# Altium integrated library TI Power Management Step-Up Regulator.IntLib: 226 symbols (part 9 of 11)
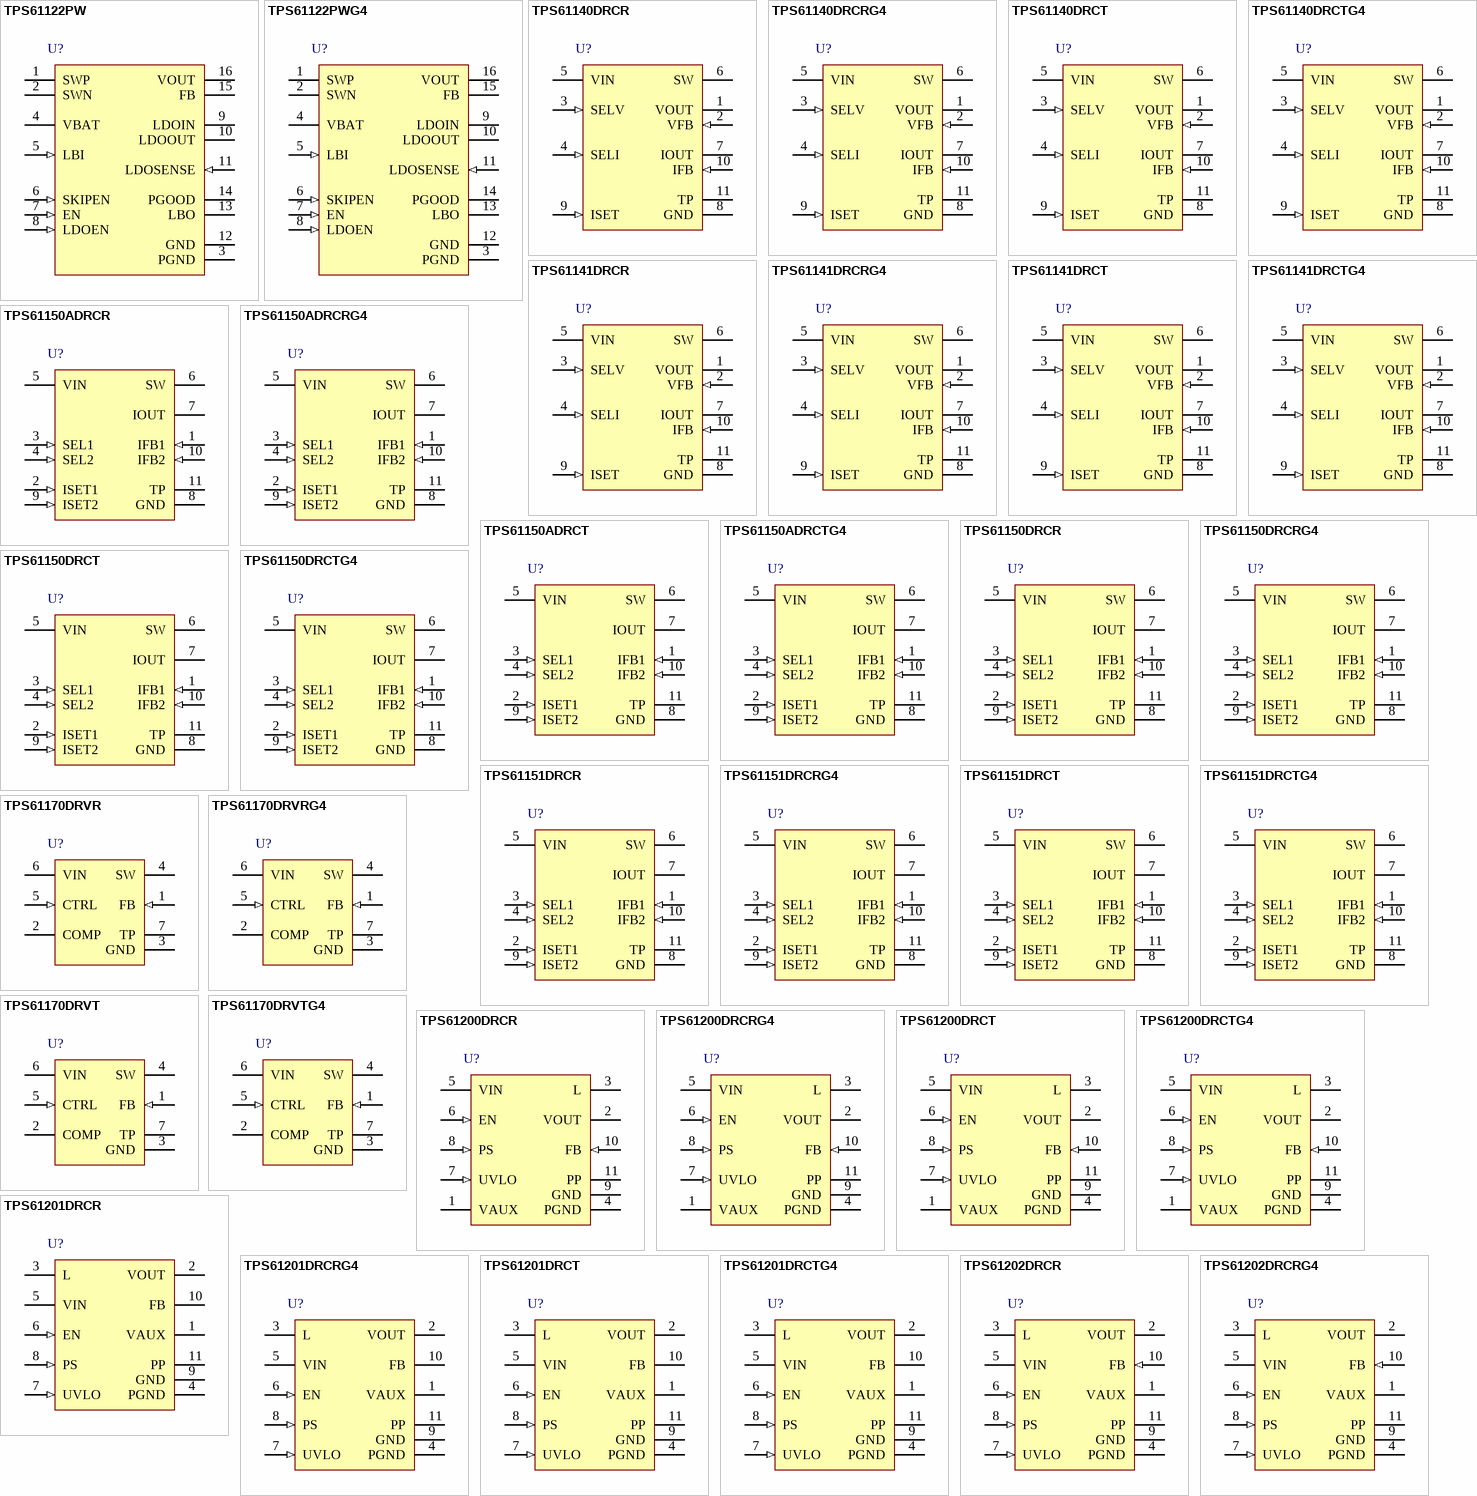
[diagram p14: symbols TPS61122PW to TPS61202DRCRG4]

## TPS61200DRCR
designator U?
Boost Voltage Converter with 0.3 to 5.5 V Input and 1.8 to 5.5 V Output, -40 to 85 degC, 10-Pin SON (DRC), Green (RoHS & no Sb/Br); Manufacturer: Texas Instruments; PartNumber: TPS61200DRCR; Regulated Outputs(#): 1; SubFamily: Step-Up Regulator; Switching Frequency(Max)(kHz): 1250; Synchronous Rectification: TRUE; Vin(Max)(V): 5.5; Vin(Min)(V): 0.3; Vout(Min)(V): 1.8; DatasheetVersion: SLVS577B; PackageVersion: revL, Sep-2011; PackageReference: DRC10-2400X1650TP; PackageDescription: 10-Pin Plastic Small Outline No-Lead, 3 x 3 x 1 mm Body, 0.5 mm Pitch, Exposed Pad; Supplier 1: Digi-Key; Supplier Part Number 1: 296-27017-2-ND; Supplier 2: Digi-Key; Supplier Part Number 2: 296-27017-1-ND; Supplier 3: Digi-Key; Supplier Part Number 3: 296-27017-6-ND; Supplier 4: Newark; Supplier Part Number 4: 37M0065; Supplier 5: Mouser; Supplier Part Number 5: 595-TPS61200DRCR; Eco-Plan: Green (RoHS & no Sb/Br); Topology: Boost; Vout(Max)(V): 5.5; Mounting Technology: Surface Mount; ComponentLink1Description: Datasheet; ComponentLink1URL: http://www.ti.com/general/docs/lit/getliterature.tsp?genericPartNumber=TPS61200&fileType=pdf; ComponentLink2Description: Package Specification; ComponentLink2URL: http://www.ti.com/litv/pdf/mpds117k
footprint DRC10-2400X1650TP (SON, 10-Leads, Body 3x3mm, Pitch 0.5mm, Thermal Pad 2.4x1.65mm, TI Recommended)
pins: 1 VAUX (power) "Supply voltage for control stage", 2 VOUT (power) "Boost converter output", 3 L (power) "Connection for Inductor", 4 PGND (power) "Power ground", 5 VIN (power) "Boost converter input voltage", 6 EN (in) "Enable input (1: enabled, 0: disabled).", 7 UVLO (in) "Undervoltage lockout comparator input, must be connected to VAUX if not used", 8 PS (in) "Enable/disable Power Save mode (1 : disabled, 0: enabled)", 9 GND (power) "Control / logic ground", 10 FB (in) "Voltage feedback of adjustable versions, must be connected to VOUT at fixed output voltage versions", 11 PP (power) "Must be soldered to achieve appropriate power dissipation. Should be connected to PGND."

## TPS61200DRCRG4
designator U?
Boost Voltage Converter with 0.3 to 5.5 V Input and 1.8 to 5.5 V Output, -40 to 85 degC, 10-Pin SON (DRC), Green (RoHS & no Sb/Br); Manufacturer: Texas Instruments; PartNumber: TPS61200DRCRG4; Regulated Outputs(#): 1; SubFamily: Step-Up Regulator; Switching Frequency(Max)(kHz): 1250; Synchronous Rectification: TRUE; Vin(Max)(V): 5.5; Vin(Min)(V): 0.3; Vout(Min)(V): 1.8; DatasheetVersion: SLVS577B; PackageVersion: revL, Sep-2011; PackageReference: DRC10-2400X1650TP; PackageDescription: 10-Pin Plastic Small Outline No-Lead, 3 x 3 x 1 mm Body, 0.5 mm Pitch, Exposed Pad; Supplier 1: Digi-Key; Supplier Part Number 1: TPS61200DRCRG4-ND; Supplier 2: Newark; Supplier Part Number 2: 41M5886; Supplier 3: Mouser; Supplier Part Number 3: 595-TPS61200DRCRG4; Eco-Plan: Green (RoHS & no Sb/Br); Topology: Boost; Vout(Max)(V): 5.5; Mounting Technology: Surface Mount; ComponentLink1Description: Datasheet; ComponentLink1URL: http://www.ti.com/general/docs/lit/getliterature.tsp?genericPartNumber=TPS61200&fileType=pdf; ComponentLink2Description: Package Specification; ComponentLink2URL: http://www.ti.com/litv/pdf/mpds117k
footprint DRC10-2400X1650TP (SON, 10-Leads, Body 3x3mm, Pitch 0.5mm, Thermal Pad 2.4x1.65mm, TI Recommended)
pins: 1 VAUX (power) "Supply voltage for control stage", 2 VOUT (power) "Boost converter output", 3 L (power) "Connection for Inductor", 4 PGND (power) "Power ground", 5 VIN (power) "Boost converter input voltage", 6 EN (in) "Enable input (1: enabled, 0: disabled).", 7 UVLO (in) "Undervoltage lockout comparator input, must be connected to VAUX if not used", 8 PS (in) "Enable/disable Power Save mode (1 : disabled, 0: enabled)", 9 GND (power) "Control / logic ground", 10 FB (in) "Voltage feedback of adjustable versions, must be connected to VOUT at fixed output voltage versions", 11 PP (power) "Must be soldered to achieve appropriate power dissipation. Should be connected to PGND."

## TPS61200DRCT
designator U?
Boost Voltage Converter with 0.3 to 5.5 V Input and 1.8 to 5.5 V Output, -40 to 85 degC, 10-Pin SON (DRC), Green (RoHS & no Sb/Br); Manufacturer: Texas Instruments; PartNumber: TPS61200DRCT; Regulated Outputs(#): 1; SubFamily: Step-Up Regulator; Switching Frequency(Max)(kHz): 1250; Synchronous Rectification: TRUE; Vin(Max)(V): 5.5; Vin(Min)(V): 0.3; Vout(Min)(V): 1.8; DatasheetVersion: SLVS577B; PackageVersion: revL, Sep-2011; PackageReference: DRC10-2400X1650TP; PackageDescription: 10-Pin Plastic Small Outline No-Lead, 3 x 3 x 1 mm Body, 0.5 mm Pitch, Exposed Pad; Supplier 1: Digi-Key; Supplier Part Number 1: 296-21663-2-ND; Supplier 2: Digi-Key; Supplier Part Number 2: 296-21663-1-ND; Supplier 3: Digi-Key; Supplier Part Number 3: 296-21663-6-ND; Supplier 4: Farnell; Supplier Part Number 4: 1471238; Supplier 5: Newark; Supplier Part Number 5: 37M0066; Supplier 6: Mouser; Supplier Part Number 6: 595-TPS61200DRCT; Eco-Plan: Green (RoHS & no Sb/Br); Topology: Boost; Vout(Max)(V): 5.5; Mounting Technology: Surface Mount; ComponentLink1Description: Datasheet; ComponentLink1URL: http://www.ti.com/general/docs/lit/getliterature.tsp?genericPartNumber=TPS61200&fileType=pdf; ComponentLink2Description: Package Specification; ComponentLink2URL: http://www.ti.com/litv/pdf/mpds117k
footprint DRC10-2400X1650TP (SON, 10-Leads, Body 3x3mm, Pitch 0.5mm, Thermal Pad 2.4x1.65mm, TI Recommended)
pins: 1 VAUX (power) "Supply voltage for control stage", 2 VOUT (power) "Boost converter output", 3 L (power) "Connection for Inductor", 4 PGND (power) "Power ground", 5 VIN (power) "Boost converter input voltage", 6 EN (in) "Enable input (1: enabled, 0: disabled).", 7 UVLO (in) "Undervoltage lockout comparator input, must be connected to VAUX if not used", 8 PS (in) "Enable/disable Power Save mode (1 : disabled, 0: enabled)", 9 GND (power) "Control / logic ground", 10 FB (in) "Voltage feedback of adjustable versions, must be connected to VOUT at fixed output voltage versions", 11 PP (power) "Must be soldered to achieve appropriate power dissipation. Should be connected to PGND."

## TPS61200DRCTG4
designator U?
Boost Voltage Converter with 0.3 to 5.5 V Input and 1.8 to 5.5 V Output, -40 to 85 degC, 10-Pin SON (DRC), Green (RoHS & no Sb/Br); Manufacturer: Texas Instruments; PartNumber: TPS61200DRCTG4; Regulated Outputs(#): 1; SubFamily: Step-Up Regulator; Switching Frequency(Max)(kHz): 1250; Synchronous Rectification: TRUE; Vin(Max)(V): 5.5; Vin(Min)(V): 0.3; Vout(Min)(V): 1.8; DatasheetVersion: SLVS577B; PackageVersion: revL, Sep-2011; PackageReference: DRC10-2400X1650TP; PackageDescription: 10-Pin Plastic Small Outline No-Lead, 3 x 3 x 1 mm Body, 0.5 mm Pitch, Exposed Pad; Supplier 1: Digi-Key; Supplier Part Number 1: TPS61200DRCTG4-ND; Supplier 2: Farnell; Supplier Part Number 2: 1366268; Supplier 3: Newark; Supplier Part Number 3: 62M0742; Supplier 4: Newark; Supplier Part Number 4: 41M5887; Supplier 5: Mouser; Supplier Part Number 5: 595-TPS61200DRCTG4; Eco-Plan: Green (RoHS & no Sb/Br); Topology: Boost; Vout(Max)(V): 5.5; Mounting Technology: Surface Mount; ComponentLink1Description: Datasheet; ComponentLink1URL: http://www.ti.com/general/docs/lit/getliterature.tsp?genericPartNumber=TPS61200&fileType=pdf; ComponentLink2Description: Package Specification; ComponentLink2URL: http://www.ti.com/litv/pdf/mpds117k
footprint DRC10-2400X1650TP (SON, 10-Leads, Body 3x3mm, Pitch 0.5mm, Thermal Pad 2.4x1.65mm, TI Recommended)
pins: 1 VAUX (power) "Supply voltage for control stage", 2 VOUT (power) "Boost converter output", 3 L (power) "Connection for Inductor", 4 PGND (power) "Power ground", 5 VIN (power) "Boost converter input voltage", 6 EN (in) "Enable input (1: enabled, 0: disabled).", 7 UVLO (in) "Undervoltage lockout comparator input, must be connected to VAUX if not used", 8 PS (in) "Enable/disable Power Save mode (1 : disabled, 0: enabled)", 9 GND (power) "Control / logic ground", 10 FB (in) "Voltage feedback of adjustable versions, must be connected to VOUT at fixed output voltage versions", 11 PP (power) "Must be soldered to achieve appropriate power dissipation. Should be connected to PGND."

## TPS61201DRCR
designator U?
Boost Voltage Converter with 0.3 to 5.5 V Input and 3.3 V Output, -40 to 85 degC, 10-Pin SON (DRC), Green (RoHS & no Sb/Br); Manufacturer: Texas Instruments; PartNumber: TPS61201DRCR; Preset Vout(V): 3.3; Regulated Outputs(#): 1; SubFamily: Step-Up Regulator; Switching Frequency(Max)(kHz): 1250; Synchronous Rectification: TRUE; Vin(Max)(V): 5.5; Vin(Min)(V): 0.3; DatasheetVersion: SLVS577B; PackageVersion: revL, Sep-2011; PackageReference: DRC10-2400X1650TP; PackageDescription: 10-Pin Plastic Small Outline No-Lead, 3 x 3 x 1 mm Body, 0.5 mm Pitch, Exposed Pad; Supplier 1: Digi-Key; Supplier Part Number 1: TPS61201DRCR-ND; Supplier 2: Newark; Supplier Part Number 2: 37M0067; Supplier 3: Mouser; Supplier Part Number 3: 595-TPS61201DRCR; Eco-Plan: Green (RoHS & no Sb/Br); Topology: Boost; Vout(Max)(V): 3.3; Vout(Min)(V): 3.3; Mounting Technology: Surface Mount; ComponentLink1Description: Datasheet; ComponentLink1URL: http://www.ti.com/general/docs/lit/getliterature.tsp?genericPartNumber=TPS61201&fileType=pdf; ComponentLink2Description: Package Specification; ComponentLink2URL: http://www.ti.com/litv/pdf/mpds117k
footprint DRC10-2400X1650TP (SON, 10-Leads, Body 3x3mm, Pitch 0.5mm, Thermal Pad 2.4x1.65mm, TI Recommended)
pins: 1 VAUX (power) "Supply voltage for control stage", 2 VOUT (power) "Boost converter output", 3 L (power) "Connection for Inductor", 4 PGND (power) "Power ground", 5 VIN (power) "Boost converter input voltage", 6 EN (in) "Enable input (1: enabled, 0: disabled).", 7 UVLO (in) "Undervoltage lockout comparator input, must be connected to VAUX if not used", 8 PS (in) "Enable/disable Power Save mode (1 : disabled, 0: enabled)", 9 GND (power) "Control / logic ground", 10 FB "Voltage feedback of adjustable versions, must be connected to VOUT at fixed output voltage versions", 11 PP (power) "Must be soldered to achieve appropriate power dissipation. Should be connected to PGND."

## TPS61201DRCRG4
designator U?
Boost Voltage Converter with 0.3 to 5.5 V Input and 3.3 V Output, -40 to 85 degC, 10-Pin SON (DRC), Green (RoHS & no Sb/Br); Manufacturer: Texas Instruments; PartNumber: TPS61201DRCRG4; Preset Vout(V): 3.3; Regulated Outputs(#): 1; SubFamily: Step-Up Regulator; Switching Frequency(Max)(kHz): 1250; Synchronous Rectification: TRUE; Vin(Max)(V): 5.5; Vin(Min)(V): 0.3; DatasheetVersion: SLVS577B; PackageVersion: revL, Sep-2011; PackageReference: DRC10-2400X1650TP; PackageDescription: 10-Pin Plastic Small Outline No-Lead, 3 x 3 x 1 mm Body, 0.5 mm Pitch, Exposed Pad; Supplier 1: Digi-Key; Supplier Part Number 1: TPS61201DRCRG4-ND; Supplier 2: Newark; Supplier Part Number 2: 41M5889; Supplier 3: Mouser; Supplier Part Number 3: 595-TPS61201DRCRG4; Eco-Plan: Green (RoHS & no Sb/Br); Topology: Boost; Vout(Max)(V): 3.3; Vout(Min)(V): 3.3; Mounting Technology: Surface Mount; ComponentLink1Description: Datasheet; ComponentLink1URL: http://www.ti.com/general/docs/lit/getliterature.tsp?genericPartNumber=TPS61201&fileType=pdf; ComponentLink2Description: Package Specification; ComponentLink2URL: http://www.ti.com/litv/pdf/mpds117k
footprint DRC10-2400X1650TP (SON, 10-Leads, Body 3x3mm, Pitch 0.5mm, Thermal Pad 2.4x1.65mm, TI Recommended)
pins: 1 VAUX (power) "Supply voltage for control stage", 2 VOUT (power) "Boost converter output", 3 L (power) "Connection for Inductor", 4 PGND (power) "Power ground", 5 VIN (power) "Boost converter input voltage", 6 EN (in) "Enable input (1: enabled, 0: disabled).", 7 UVLO (in) "Undervoltage lockout comparator input, must be connected to VAUX if not used", 8 PS (in) "Enable/disable Power Save mode (1 : disabled, 0: enabled)", 9 GND (power) "Control / logic ground", 10 FB "Voltage feedback of adjustable versions, must be connected to VOUT at fixed output voltage versions", 11 PP (power) "Must be soldered to achieve appropriate power dissipation. Should be connected to PGND."

## TPS61201DRCT
designator U?
Boost Voltage Converter with 0.3 to 5.5 V Input and 3.3 V Output, -40 to 85 degC, 10-Pin SON (DRC), Green (RoHS & no Sb/Br); Manufacturer: Texas Instruments; PartNumber: TPS61201DRCT; Preset Vout(V): 3.3; Regulated Outputs(#): 1; SubFamily: Step-Up Regulator; Switching Frequency(Max)(kHz): 1250; Synchronous Rectification: TRUE; Vin(Max)(V): 5.5; Vin(Min)(V): 0.3; DatasheetVersion: SLVS577B; PackageVersion: revL, Sep-2011; PackageReference: DRC10-2400X1650TP; PackageDescription: 10-Pin Plastic Small Outline No-Lead, 3 x 3 x 1 mm Body, 0.5 mm Pitch, Exposed Pad; Supplier 1: Digi-Key; Supplier Part Number 1: 296-21684-2-ND; Supplier 2: Digi-Key; Supplier Part Number 2: 296-21684-1-ND; Supplier 3: Digi-Key; Supplier Part Number 3: 296-21684-6-ND; Supplier 4: Farnell; Supplier Part Number 4: 1564952; Supplier 5: Newark; Supplier Part Number 5: 37M0068; Supplier 6: Mouser; Supplier Part Number 6: 595-TPS61201DRCT; Eco-Plan: Green (RoHS & no Sb/Br); Topology: Boost; Vout(Max)(V): 3.3; Vout(Min)(V): 3.3; Mounting Technology: Surface Mount; ComponentLink1Description: Datasheet; ComponentLink1URL: http://www.ti.com/general/docs/lit/getliterature.tsp?genericPartNumber=TPS61201&fileType=pdf; ComponentLink2Description: Package Specification; ComponentLink2URL: http://www.ti.com/litv/pdf/mpds117k
footprint DRC10-2400X1650TP (SON, 10-Leads, Body 3x3mm, Pitch 0.5mm, Thermal Pad 2.4x1.65mm, TI Recommended)
pins: 1 VAUX (power) "Supply voltage for control stage", 2 VOUT (power) "Boost converter output", 3 L (power) "Connection for Inductor", 4 PGND (power) "Power ground", 5 VIN (power) "Boost converter input voltage", 6 EN (in) "Enable input (1: enabled, 0: disabled).", 7 UVLO (in) "Undervoltage lockout comparator input, must be connected to VAUX if not used", 8 PS (in) "Enable/disable Power Save mode (1 : disabled, 0: enabled)", 9 GND (power) "Control / logic ground", 10 FB "Voltage feedback of adjustable versions, must be connected to VOUT at fixed output voltage versions", 11 PP (power) "Must be soldered to achieve appropriate power dissipation. Should be connected to PGND."

## TPS61201DRCTG4
designator U?
Boost Voltage Converter with 0.3 to 5.5 V Input and 3.3 V Output, -40 to 85 degC, 10-Pin SON (DRC), Green (RoHS & no Sb/Br); Manufacturer: Texas Instruments; PartNumber: TPS61201DRCTG4; Preset Vout(V): 3.3; Regulated Outputs(#): 1; SubFamily: Step-Up Regulator; Switching Frequency(Max)(kHz): 1250; Synchronous Rectification: TRUE; Vin(Max)(V): 5.5; Vin(Min)(V): 0.3; DatasheetVersion: SLVS577B; PackageVersion: revL, Sep-2011; PackageReference: DRC10-2400X1650TP; PackageDescription: 10-Pin Plastic Small Outline No-Lead, 3 x 3 x 1 mm Body, 0.5 mm Pitch, Exposed Pad; Supplier 1: Digi-Key; Supplier Part Number 1: TPS61201DRCTG4-ND; Supplier 2: Newark; Supplier Part Number 2: 41M5890; Supplier 3: Mouser; Supplier Part Number 3: 595-TPS61201DRCTG4; Eco-Plan: Green (RoHS & no Sb/Br); Topology: Boost; Vout(Max)(V): 3.3; Vout(Min)(V): 3.3; Mounting Technology: Surface Mount; ComponentLink1Description: Datasheet; ComponentLink1URL: http://www.ti.com/general/docs/lit/getliterature.tsp?genericPartNumber=TPS61201&fileType=pdf; ComponentLink2Description: Package Specification; ComponentLink2URL: http://www.ti.com/litv/pdf/mpds117k
footprint DRC10-2400X1650TP (SON, 10-Leads, Body 3x3mm, Pitch 0.5mm, Thermal Pad 2.4x1.65mm, TI Recommended)
pins: 1 VAUX (power) "Supply voltage for control stage", 2 VOUT (power) "Boost converter output", 3 L (power) "Connection for Inductor", 4 PGND (power) "Power ground", 5 VIN (power) "Boost converter input voltage", 6 EN (in) "Enable input (1: enabled, 0: disabled).", 7 UVLO (in) "Undervoltage lockout comparator input, must be connected to VAUX if not used", 8 PS (in) "Enable/disable Power Save mode (1 : disabled, 0: enabled)", 9 GND (power) "Control / logic ground", 10 FB "Voltage feedback of adjustable versions, must be connected to VOUT at fixed output voltage versions", 11 PP (power) "Must be soldered to achieve appropriate power dissipation. Should be connected to PGND."

## TPS61202DRCR
designator U?
Boost Voltage Converter with 0.3 to 5.5 V Input and 5 V Output, -40 to 85 degC, 10-Pin SON (DRC), Green (RoHS & no Sb/Br); Manufacturer: Texas Instruments; PartNumber: TPS61202DRCR; Preset Vout(V): 5; Regulated Outputs(#): 1; SubFamily: Step-Up Regulator; Switching Frequency(Max)(kHz): 1250; Synchronous Rectification: TRUE; Vin(Max)(V): 5.5; Vin(Min)(V): 0.3; DatasheetVersion: SLVS577B; PackageVersion: revL, Sep-2011; PackageReference: DRC10-2400X1650TP; PackageDescription: 10-Pin Plastic Small Outline No-Lead, 3 x 3 x 1 mm Body, 0.5 mm Pitch, Exposed Pad; Supplier 1: Digi-Key; Supplier Part Number 1: 296-27462-2-ND; Supplier 2: Digi-Key; Supplier Part Number 2: 296-27462-1-ND; Supplier 3: Digi-Key; Supplier Part Number 3: 296-27462-6-ND; Supplier 4: Newark; Supplier Part Number 4: 37M0069; Supplier 5: Mouser; Supplier Part Number 5: 595-TPS61202DRCR; Eco-Plan: Green (RoHS & no Sb/Br); Topology: Boost; Vout(Max)(V): 5; Vout(Min)(V): 5; Mounting Technology: Surface Mount; ComponentLink1Description: Datasheet; ComponentLink1URL: http://www.ti.com/general/docs/lit/getliterature.tsp?genericPartNumber=TPS61202&fileType=pdf; ComponentLink2Description: Package Specification; ComponentLink2URL: http://www.ti.com/litv/pdf/mpds117k
footprint DRC10-2400X1650TP (SON, 10-Leads, Body 3x3mm, Pitch 0.5mm, Thermal Pad 2.4x1.65mm, TI Recommended)
pins: 1 VAUX (power) "Supply voltage for control stage", 2 VOUT (power) "Boost converter output", 3 L (power) "Connection for Inductor", 4 PGND (power) "Power ground", 5 VIN (power) "Boost converter input voltage", 6 EN (in) "Enable input (1: enabled, 0: disabled).", 7 UVLO (in) "Undervoltage lockout comparator input, must be connected to VAUX if not used", 8 PS (in) "Enable/disable Power Save mode (1 : disabled, 0: enabled)", 9 GND (power) "Control / logic ground", 10 FB (in) "Voltage feedback of adjustable versions, must be connected to VOUT at fixed output voltage versions", 11 PP (power) "Must be soldered to achieve appropriate power dissipation. Should be connected to PGND."

## TPS61202DRCRG4
designator U?
Boost Voltage Converter with 0.3 to 5.5 V Input and 5 V Output, -40 to 85 degC, 10-Pin SON (DRC), Green (RoHS & no Sb/Br); Manufacturer: Texas Instruments; PartNumber: TPS61202DRCRG4; Preset Vout(V): 5; Regulated Outputs(#): 1; SubFamily: Step-Up Regulator; Switching Frequency(Max)(kHz): 1250; Synchronous Rectification: TRUE; Vin(Max)(V): 5.5; Vin(Min)(V): 0.3; DatasheetVersion: SLVS577B; PackageVersion: revL, Sep-2011; PackageReference: DRC10-2400X1650TP; PackageDescription: 10-Pin Plastic Small Outline No-Lead, 3 x 3 x 1 mm Body, 0.5 mm Pitch, Exposed Pad; Supplier 1: Digi-Key; Supplier Part Number 1: TPS61202DRCRG4-ND; Supplier 2: Newark; Supplier Part Number 2: 41M5891; Supplier 3: Mouser; Supplier Part Number 3: 595-TPS61202DRCRG4; Eco-Plan: Green (RoHS & no Sb/Br); Topology: Boost; Vout(Max)(V): 5; Vout(Min)(V): 5; Mounting Technology: Surface Mount; ComponentLink1Description: Datasheet; ComponentLink1URL: http://www.ti.com/general/docs/lit/getliterature.tsp?genericPartNumber=TPS61202&fileType=pdf; ComponentLink2Description: Package Specification; ComponentLink2URL: http://www.ti.com/litv/pdf/mpds117k
footprint DRC10-2400X1650TP (SON, 10-Leads, Body 3x3mm, Pitch 0.5mm, Thermal Pad 2.4x1.65mm, TI Recommended)
pins: 1 VAUX (power) "Supply voltage for control stage", 2 VOUT (power) "Boost converter output", 3 L (power) "Connection for Inductor", 4 PGND (power) "Power ground", 5 VIN (power) "Boost converter input voltage", 6 EN (in) "Enable input (1: enabled, 0: disabled).", 7 UVLO (in) "Undervoltage lockout comparator input, must be connected to VAUX if not used", 8 PS (in) "Enable/disable Power Save mode (1 : disabled, 0: enabled)", 9 GND (power) "Control / logic ground", 10 FB (in) "Voltage feedback of adjustable versions, must be connected to VOUT at fixed output voltage versions", 11 PP (power) "Must be soldered to achieve appropriate power dissipation. Should be connected to PGND."

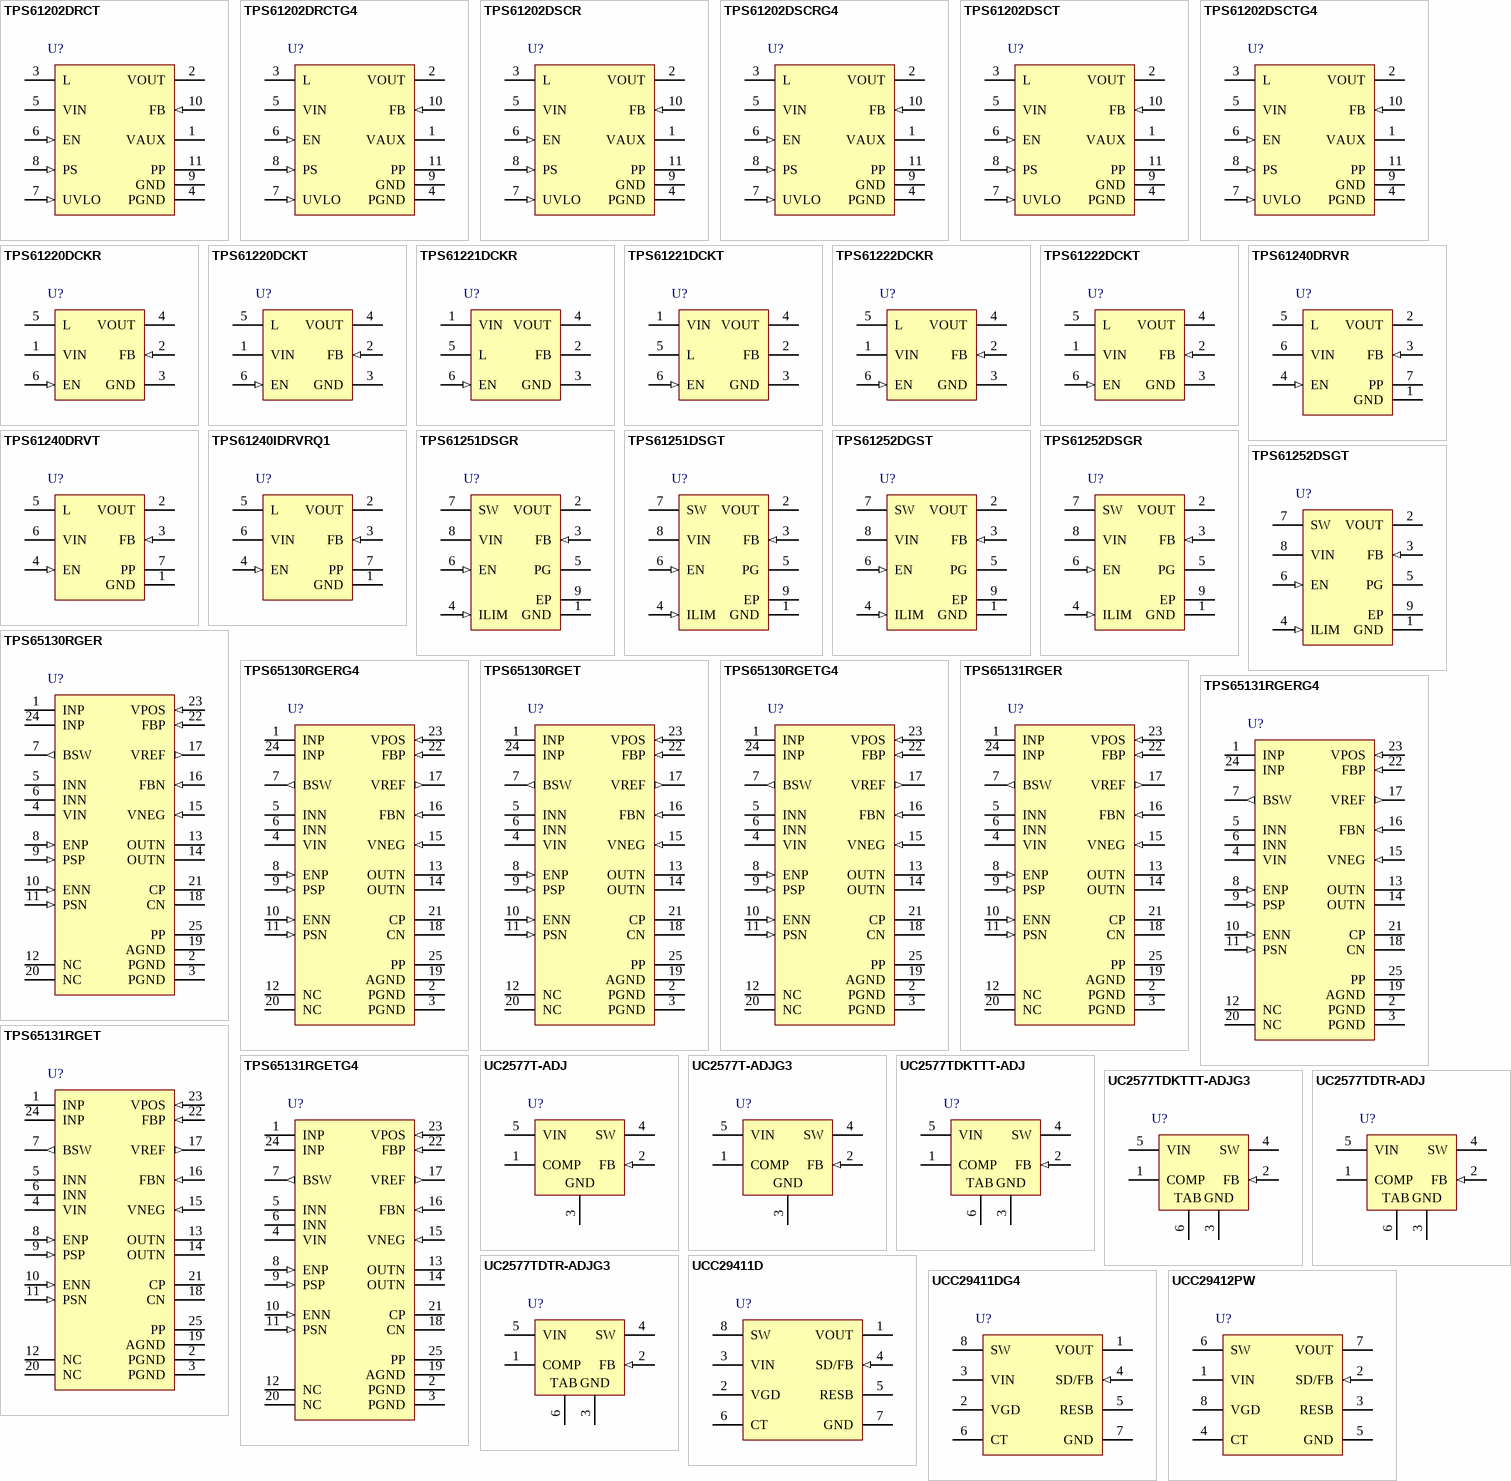
[diagram p5: symbols TPS61202DRCT to UCC29412PW]

## TPS61202DRCT
designator U?
Boost Voltage Converter with 0.3 to 5.5 V Input and 5 V Output, -40 to 85 degC, 10-Pin SON (DRC), Green (RoHS & no Sb/Br); Manufacturer: Texas Instruments; PartNumber: TPS61202DRCT; Preset Vout(V): 5; Regulated Outputs(#): 1; SubFamily: Step-Up Regulator; Switching Frequency(Max)(kHz): 1250; Synchronous Rectification: TRUE; Vin(Max)(V): 5.5; Vin(Min)(V): 0.3; DatasheetVersion: SLVS577B; PackageVersion: revL, Sep-2011; PackageReference: DRC10-2400X1650TP; PackageDescription: 10-Pin Plastic Small Outline No-Lead, 3 x 3 x 1 mm Body, 0.5 mm Pitch, Exposed Pad; Supplier 1: Digi-Key; Supplier Part Number 1: 296-21685-2-ND; Supplier 2: Digi-Key; Supplier Part Number 2: 296-21685-1-ND; Supplier 3: Digi-Key; Supplier Part Number 3: 296-21685-6-ND; Supplier 4: Farnell; Supplier Part Number 4: 1564953; Supplier 5: Newark; Supplier Part Number 5: 37M0070; Supplier 6: Mouser; Supplier Part Number 6: 595-TPS61202DRCT; Eco-Plan: Green (RoHS & no Sb/Br); Topology: Boost; Vout(Max)(V): 5; Vout(Min)(V): 5; Mounting Technology: Surface Mount; ComponentLink1Description: Datasheet; ComponentLink1URL: http://www.ti.com/general/docs/lit/getliterature.tsp?genericPartNumber=TPS61202&fileType=pdf; ComponentLink2Description: Package Specification; ComponentLink2URL: http://www.ti.com/litv/pdf/mpds117k
footprint DRC10-2400X1650TP (SON, 10-Leads, Body 3x3mm, Pitch 0.5mm, Thermal Pad 2.4x1.65mm, TI Recommended)
pins: 1 VAUX (power) "Supply voltage for control stage", 2 VOUT (power) "Boost converter output", 3 L (power) "Connection for Inductor", 4 PGND (power) "Power ground", 5 VIN (power) "Boost converter input voltage", 6 EN (in) "Enable input (1: enabled, 0: disabled).", 7 UVLO (in) "Undervoltage lockout comparator input, must be connected to VAUX if not used", 8 PS (in) "Enable/disable Power Save mode (1 : disabled, 0: enabled)", 9 GND (power) "Control / logic ground", 10 FB (in) "Voltage feedback of adjustable versions, must be connected to VOUT at fixed output voltage versions", 11 PP (power) "Must be soldered to achieve appropriate power dissipation. Should be connected to PGND."

## TPS61202DRCTG4
designator U?
Boost Voltage Converter with 0.3 to 5.5 V Input and 5 V Output, -40 to 85 degC, 10-Pin SON (DRC), Green (RoHS & no Sb/Br); Manufacturer: Texas Instruments; PartNumber: TPS61202DRCTG4; Preset Vout(V): 5; Regulated Outputs(#): 1; SubFamily: Step-Up Regulator; Switching Frequency(Max)(kHz): 1250; Synchronous Rectification: TRUE; Vin(Max)(V): 5.5; Vin(Min)(V): 0.3; DatasheetVersion: SLVS577B; PackageVersion: revL, Sep-2011; PackageReference: DRC10-2400X1650TP; PackageDescription: 10-Pin Plastic Small Outline No-Lead, 3 x 3 x 1 mm Body, 0.5 mm Pitch, Exposed Pad; Supplier 1: Digi-Key; Supplier Part Number 1: TPS61202DRCTG4-ND; Supplier 2: Newark; Supplier Part Number 2: 41M5892; Supplier 3: Mouser; Supplier Part Number 3: 595-TPS61202DRCTG4; Eco-Plan: Green (RoHS & no Sb/Br); Topology: Boost; Vout(Max)(V): 5; Vout(Min)(V): 5; Mounting Technology: Surface Mount; ComponentLink1Description: Datasheet; ComponentLink1URL: http://www.ti.com/general/docs/lit/getliterature.tsp?genericPartNumber=TPS61202&fileType=pdf; ComponentLink2Description: Package Specification; ComponentLink2URL: http://www.ti.com/litv/pdf/mpds117k
footprint DRC10-2400X1650TP (SON, 10-Leads, Body 3x3mm, Pitch 0.5mm, Thermal Pad 2.4x1.65mm, TI Recommended)
pins: 1 VAUX (power) "Supply voltage for control stage", 2 VOUT (power) "Boost converter output", 3 L (power) "Connection for Inductor", 4 PGND (power) "Power ground", 5 VIN (power) "Boost converter input voltage", 6 EN (in) "Enable input (1: enabled, 0: disabled).", 7 UVLO (in) "Undervoltage lockout comparator input, must be connected to VAUX if not used", 8 PS (in) "Enable/disable Power Save mode (1 : disabled, 0: enabled)", 9 GND (power) "Control / logic ground", 10 FB (in) "Voltage feedback of adjustable versions, must be connected to VOUT at fixed output voltage versions", 11 PP (power) "Must be soldered to achieve appropriate power dissipation. Should be connected to PGND."

## TPS61202DSCR
designator U?
Boost Voltage Converter with 0.3 to 5.5 V Input and 5 V Output, -40 to 85 degC, 10-Pin SON (DSC), Green (RoHS & no Sb/Br); Manufacturer: Texas Instruments; PartNumber: TPS61202DSCR; Preset Vout(V): 5; Regulated Outputs(#): 1; SubFamily: Step-Up Regulator; Switching Frequency(Max)(kHz): 1250; Synchronous Rectification: TRUE; Vin(Max)(V): 5.5; Vin(Min)(V): 0.3; DatasheetVersion: SLVS577B; PackageVersion: revL, Sep-2011; PackageReference: DRC10-2400X1650TP; PackageDescription: 10-Pin Plastic Small Outline No-Lead, 3 x 3 x 1 mm Body, 0.5 mm Pitch, Exposed Pad; Supplier 1: Digi-Key; Supplier Part Number 1: 296-24865-2-ND; Supplier 2: Digi-Key; Supplier Part Number 2: 296-24865-1-ND; Supplier 3: Digi-Key; Supplier Part Number 3: 296-24865-6-ND; Supplier 4: Newark; Supplier Part Number 4: 85M0223; Supplier 5: Mouser; Supplier Part Number 5: 595-TPS61202DSCR; Eco-Plan: Green (RoHS & no Sb/Br); Topology: Boost; Vout(Max)(V): 5; Vout(Min)(V): 5; Mounting Technology: Surface Mount; ComponentLink1Description: Datasheet; ComponentLink1URL: http://www.ti.com/general/docs/lit/getliterature.tsp?genericPartNumber=TPS61202&fileType=pdf; ComponentLink2Description: Package Specification; ComponentLink2URL: http://www.ti.com/litv/pdf/mpds117k
footprint DRC10-2400X1650TP (SON, 10-Leads, Body 3x3mm, Pitch 0.5mm, Thermal Pad 2.4x1.65mm, TI Recommended)
pins: 1 VAUX (power) "Supply voltage for control stage", 2 VOUT (power) "Boost converter output", 3 L (power) "Connection for Inductor", 4 PGND (power) "Power ground", 5 VIN (power) "Boost converter input voltage", 6 EN (in) "Enable input (1: enabled, 0: disabled).", 7 UVLO (in) "Undervoltage lockout comparator input, must be connected to VAUX if not used", 8 PS (in) "Enable/disable Power Save mode (1 : disabled, 0: enabled)", 9 GND (power) "Control / logic ground", 10 FB (in) "Voltage feedback of adjustable versions, must be connected to VOUT at fixed output voltage versions", 11 PP (power) "Must be soldered to achieve appropriate power dissipation. Should be connected to PGND."

## TPS61202DSCRG4
designator U?
Boost Voltage Converter with 0.3 to 5.5 V Input and 5 V Output, -40 to 85 degC, 10-Pin SON (DSC), Green (RoHS & no Sb/Br); Manufacturer: Texas Instruments; PartNumber: TPS61202DSCRG4; Preset Vout(V): 5; Regulated Outputs(#): 1; SubFamily: Step-Up Regulator; Switching Frequency(Max)(kHz): 1250; Synchronous Rectification: TRUE; Vin(Max)(V): 5.5; Vin(Min)(V): 0.3; DatasheetVersion: SLVS577B; PackageVersion: revL, Sep-2011; PackageReference: DRC10-2400X1650TP; PackageDescription: 10-Pin Plastic Small Outline No-Lead, 3 x 3 x 1 mm Body, 0.5 mm Pitch, Exposed Pad; Supplier 1: Digi-Key; Supplier Part Number 1: TPS61202DSCRG4-ND; Supplier 2: Mouser; Supplier Part Number 2: 595-TPS61202DSCRG4; Eco-Plan: Green (RoHS & no Sb/Br); Topology: Boost; Vout(Max)(V): 5; Vout(Min)(V): 5; Mounting Technology: Surface Mount; ComponentLink1Description: Datasheet; ComponentLink1URL: http://www.ti.com/general/docs/lit/getliterature.tsp?genericPartNumber=TPS61202&fileType=pdf; ComponentLink2Description: Package Specification; ComponentLink2URL: http://www.ti.com/litv/pdf/mpds117k
footprint DRC10-2400X1650TP (SON, 10-Leads, Body 3x3mm, Pitch 0.5mm, Thermal Pad 2.4x1.65mm, TI Recommended)
pins: 1 VAUX (power) "Supply voltage for control stage", 2 VOUT (power) "Boost converter output", 3 L (power) "Connection for Inductor", 4 PGND (power) "Power ground", 5 VIN (power) "Boost converter input voltage", 6 EN (in) "Enable input (1: enabled, 0: disabled).", 7 UVLO (in) "Undervoltage lockout comparator input, must be connected to VAUX if not used", 8 PS (in) "Enable/disable Power Save mode (1 : disabled, 0: enabled)", 9 GND (power) "Control / logic ground", 10 FB (in) "Voltage feedback of adjustable versions, must be connected to VOUT at fixed output voltage versions", 11 PP (power) "Must be soldered to achieve appropriate power dissipation. Should be connected to PGND."

## TPS61202DSCT
designator U?
Boost Voltage Converter with 0.3 to 5.5 V Input and 5 V Output, -40 to 85 degC, 10-Pin SON (DSC), Green (RoHS & no Sb/Br); Manufacturer: Texas Instruments; PartNumber: TPS61202DSCT; Preset Vout(V): 5; Regulated Outputs(#): 1; SubFamily: Step-Up Regulator; Switching Frequency(Max)(kHz): 1250; Synchronous Rectification: TRUE; Vin(Max)(V): 5.5; Vin(Min)(V): 0.3; DatasheetVersion: SLVS577B; PackageVersion: revL, Sep-2011; PackageReference: DRC10-2400X1650TP; PackageDescription: 10-Pin Plastic Small Outline No-Lead, 3 x 3 x 1 mm Body, 0.5 mm Pitch, Exposed Pad; Supplier 1: Digi-Key; Supplier Part Number 1: 296-23120-2-ND; Supplier 2: Digi-Key; Supplier Part Number 2: 296-23120-1-ND; Supplier 3: Digi-Key; Supplier Part Number 3: 296-23120-6-ND; Supplier 4: Newark; Supplier Part Number 4: 85M0224; Supplier 5: Mouser; Supplier Part Number 5: 595-TPS61202DSCT; Eco-Plan: Green (RoHS & no Sb/Br); Topology: Boost; Vout(Max)(V): 5; Vout(Min)(V): 5; Mounting Technology: Surface Mount; ComponentLink1Description: Datasheet; ComponentLink1URL: http://www.ti.com/general/docs/lit/getliterature.tsp?genericPartNumber=TPS61202&fileType=pdf; ComponentLink2Description: Package Specification; ComponentLink2URL: http://www.ti.com/litv/pdf/mpds117k
footprint DRC10-2400X1650TP (SON, 10-Leads, Body 3x3mm, Pitch 0.5mm, Thermal Pad 2.4x1.65mm, TI Recommended)
pins: 1 VAUX (power) "Supply voltage for control stage", 2 VOUT (power) "Boost converter output", 3 L (power) "Connection for Inductor", 4 PGND (power) "Power ground", 5 VIN (power) "Boost converter input voltage", 6 EN (in) "Enable input (1: enabled, 0: disabled).", 7 UVLO (in) "Undervoltage lockout comparator input, must be connected to VAUX if not used", 8 PS (in) "Enable/disable Power Save mode (1 : disabled, 0: enabled)", 9 GND (power) "Control / logic ground", 10 FB (in) "Voltage feedback of adjustable versions, must be connected to VOUT at fixed output voltage versions", 11 PP (power) "Must be soldered to achieve appropriate power dissipation. Should be connected to PGND."

## TPS61202DSCTG4
designator U?
Boost Voltage Converter with 0.3 to 5.5 V Input and 5 V Output, -40 to 85 degC, 10-Pin SON (DSC), Green (RoHS & no Sb/Br); Manufacturer: Texas Instruments; PartNumber: TPS61202DSCTG4; Preset Vout(V): 5; Regulated Outputs(#): 1; SubFamily: Step-Up Regulator; Switching Frequency(Max)(kHz): 1250; Synchronous Rectification: TRUE; Vin(Max)(V): 5.5; Vin(Min)(V): 0.3; DatasheetVersion: SLVS577B; PackageVersion: revL, Sep-2011; PackageReference: DRC10-2400X1650TP; PackageDescription: 10-Pin Plastic Small Outline No-Lead, 3 x 3 x 1 mm Body, 0.5 mm Pitch, Exposed Pad; Supplier 1: Digi-Key; Supplier Part Number 1: TPS61202DSCTG4-ND; Supplier 2: Mouser; Supplier Part Number 2: 595-TPS61202DSCTG4; Eco-Plan: Green (RoHS & no Sb/Br); Topology: Boost; Vout(Max)(V): 5; Vout(Min)(V): 5; Mounting Technology: Surface Mount; ComponentLink1Description: Datasheet; ComponentLink1URL: http://www.ti.com/general/docs/lit/getliterature.tsp?genericPartNumber=TPS61202&fileType=pdf; ComponentLink2Description: Package Specification; ComponentLink2URL: http://www.ti.com/litv/pdf/mpds117k
footprint DRC10-2400X1650TP (SON, 10-Leads, Body 3x3mm, Pitch 0.5mm, Thermal Pad 2.4x1.65mm, TI Recommended)
pins: 1 VAUX (power) "Supply voltage for control stage", 2 VOUT (power) "Boost converter output", 3 L (power) "Connection for Inductor", 4 PGND (power) "Power ground", 5 VIN (power) "Boost converter input voltage", 6 EN (in) "Enable input (1: enabled, 0: disabled).", 7 UVLO (in) "Undervoltage lockout comparator input, must be connected to VAUX if not used", 8 PS (in) "Enable/disable Power Save mode (1 : disabled, 0: enabled)", 9 GND (power) "Control / logic ground", 10 FB (in) "Voltage feedback of adjustable versions, must be connected to VOUT at fixed output voltage versions", 11 PP (power) "Must be soldered to achieve appropriate power dissipation. Should be connected to PGND."

## TPS61220DCKR
designator U?
Boost Voltage Converter with 0.7 to 5.5 V Input and 1.8 to 5.5 V Output, -40 to 85 degC, 6-Pin SC70 (DCK), Green (RoHS & no Sb/Br); Manufacturer: Texas Instruments; PartNumber: TPS61220DCKR; Regulated Outputs(#): 1; SubFamily: Step-Up Regulator; Switching Frequency(Max)(kHz): 2000; Vin(Max)(V): 5.5; Vin(Min)(V): 0.7; Vout(Min)(V): 1.8; DatasheetVersion: SLVS776; PackageVersion: revG, Jan-2007; PackageReference: DCK6; PackageDescription: 6-Pin Plastic Small-Outline Package, 2 x 1.3 mm Body, 0.65 mm Pitch, 2.1 mm Lead Span; Supplier 1: Digi-Key; Supplier Part Number 1: 296-32505-2-ND; Supplier 2: Digi-Key; Supplier Part Number 2: 296-32505-1-ND; Supplier 3: Digi-Key; Supplier Part Number 3: 296-32505-6-ND; Supplier 4: Newark; Supplier Part Number 4: 09R6663; Supplier 5: Mouser; Supplier Part Number 5: 595-TPS61220DCKR; Eco-Plan: Green (RoHS & no Sb/Br); Topology: Boost; Vout(Max)(V): 5.5; Mounting Technology: Surface Mount; Code_JEDEC: MO-203-AB; ComponentLink1Description: Datasheet; ComponentLink1URL: http://www.ti.com/general/docs/lit/getliterature.tsp?genericPartNumber=TPS61220&fileType=pdf; ComponentLink2Description: Package Specification; ComponentLink2URL: http://www.ti.com/litv/pdf/mpds114c
footprint DCK6_N (SOT23, 6-Leads, Body 2x1.3mm, Pitch 0.65mm, Lead Span 2.1mm, IPC Medium Density)
footprint DCK6_L (SOT23, 6-Leads, Body 2x1.3mm, Pitch 0.65mm, Lead Span 2.1mm, IPC High Density)
footprint DCK6_M (SOT23, 6-Leads, Body 2x1.3mm, Pitch 0.65mm, Lead Span 2.1mm, IPC Low Density)
pins: 1 VIN (power) "Boost converter input voltage", 2 FB (in) "Voltage feedback of adjustable version. Must be connected to VOUT at fixed output voltage versions.", 3 GND (power) "Control / logic and power ground", 4 VOUT (power) "Boost converter output voltage", 5 L (power) "Connection for Inductor", 6 EN (in) "Enable input (1: enabled, 0: disabled). Must be actively tied high or low."

## TPS61220DCKT
designator U?
Boost Voltage Converter with 0.7 to 5.5 V Input and 1.8 to 5.5 V Output, -40 to 85 degC, 6-Pin SC70 (DCK), Green (RoHS & no Sb/Br); Manufacturer: Texas Instruments; PartNumber: TPS61220DCKT; Regulated Outputs(#): 1; SubFamily: Step-Up Regulator; Switching Frequency(Max)(kHz): 2000; Vin(Max)(V): 5.5; Vin(Min)(V): 0.7; Vout(Min)(V): 1.8; DatasheetVersion: SLVS776; PackageVersion: revG, Jan-2007; PackageReference: DCK6; PackageDescription: 6-Pin Plastic Small-Outline Package, 2 x 1.3 mm Body, 0.65 mm Pitch, 2.1 mm Lead Span; Supplier 1: Digi-Key; Supplier Part Number 1: 296-24170-2-ND; Supplier 2: Digi-Key; Supplier Part Number 2: 296-24170-1-ND; Supplier 3: Digi-Key; Supplier Part Number 3: 296-24170-6-ND; Supplier 4: Farnell; Supplier Part Number 4: 1710823; Supplier 5: Newark; Supplier Part Number 5: 90R9915; Supplier 6: Mouser; Supplier Part Number 6: 595-TPS61220DCKT; Eco-Plan: Green (RoHS & no Sb/Br); Topology: Boost; Vout(Max)(V): 5.5; Mounting Technology: Surface Mount; Code_JEDEC: MO-203-AB; ComponentLink1Description: Datasheet; ComponentLink1URL: http://www.ti.com/general/docs/lit/getliterature.tsp?genericPartNumber=TPS61220&fileType=pdf; ComponentLink2Description: Package Specification; ComponentLink2URL: http://www.ti.com/litv/pdf/mpds114c
footprint DCK6_N (SOT23, 6-Leads, Body 2x1.3mm, Pitch 0.65mm, Lead Span 2.1mm, IPC Medium Density)
footprint DCK6_L (SOT23, 6-Leads, Body 2x1.3mm, Pitch 0.65mm, Lead Span 2.1mm, IPC High Density)
footprint DCK6_M (SOT23, 6-Leads, Body 2x1.3mm, Pitch 0.65mm, Lead Span 2.1mm, IPC Low Density)
pins: 1 VIN (power) "Boost converter input voltage", 2 FB (in) "Voltage feedback of adjustable version. Must be connected to VOUT at fixed output voltage versions.", 3 GND (power) "Control / logic and power ground", 4 VOUT (power) "Boost converter output voltage", 5 L (power) "Connection for Inductor", 6 EN (in) "Enable input (1: enabled, 0: disabled). Must be actively tied high or low."

## TPS61221DCKR
designator U?
Boost Voltage Converter with 0.7 to 5.5 V Input and 3.3 V Output, -40 to 85 degC, 6-Pin SC70 (DCK), Green (RoHS & no Sb/Br); Manufacturer: Texas Instruments; PartNumber: TPS61221DCKR; Regulated Outputs(#): 1; SubFamily: Step-Up Regulator; Switching Frequency(Max)(kHz): 2000; Vin(Max)(V): 5.5; Vin(Min)(V): 0.7; Vout(Max)(V): 3.3; DatasheetVersion: SLVS776; PackageVersion: revG, Jan-2007; PackageReference: DCK6; PackageDescription: 6-Pin Plastic Small-Outline Package, 2 x 1.3 mm Body, 0.65 mm Pitch, 2.1 mm Lead Span; Supplier 1: Digi-Key; Supplier Part Number 1: TPS61221DCKR-ND; Supplier 2: Newark; Supplier Part Number 2: 09R6665; Supplier 3: Mouser; Supplier Part Number 3: 595-TPS61221DCKR; Eco-Plan: Green (RoHS & no Sb/Br); Topology: Boost; Vout(Min)(V): 3.3; Mounting Technology: Surface Mount; Code_JEDEC: MO-203-AB; ComponentLink1Description: Datasheet; ComponentLink1URL: http://www.ti.com/general/docs/lit/getliterature.tsp?genericPartNumber=TPS61221&fileType=pdf; ComponentLink2Description: Package Specification; ComponentLink2URL: http://www.ti.com/litv/pdf/mpds114c
footprint DCK6_N (SOT23, 6-Leads, Body 2x1.3mm, Pitch 0.65mm, Lead Span 2.1mm, IPC Medium Density)
footprint DCK6_L (SOT23, 6-Leads, Body 2x1.3mm, Pitch 0.65mm, Lead Span 2.1mm, IPC High Density)
footprint DCK6_M (SOT23, 6-Leads, Body 2x1.3mm, Pitch 0.65mm, Lead Span 2.1mm, IPC Low Density)
pins: 1 VIN (power) "Boost converter input voltage", 2 FB "Voltage feedback of adjustable version. Must be connected to VOUT at fixed output voltage versions.", 3 GND (power) "Control / logic and power ground", 4 VOUT (power) "Boost converter output voltage", 5 L (power) "Connection for Inductor", 6 EN (in) "Enable input (1: enabled, 0: disabled). Must be actively tied high or low."

## TPS61221DCKT
designator U?
Boost Voltage Converter with 0.7 to 5.5 V Input and 3.3 V Output, -40 to 85 degC, 6-Pin SC70 (DCK), Green (RoHS & no Sb/Br); Manufacturer: Texas Instruments; PartNumber: TPS61221DCKT; Regulated Outputs(#): 1; SubFamily: Step-Up Regulator; Switching Frequency(Max)(kHz): 2000; Vin(Max)(V): 5.5; Vin(Min)(V): 0.7; Vout(Max)(V): 3.3; DatasheetVersion: SLVS776; PackageVersion: revG, Jan-2007; PackageReference: DCK6; PackageDescription: 6-Pin Plastic Small-Outline Package, 2 x 1.3 mm Body, 0.65 mm Pitch, 2.1 mm Lead Span; Supplier 1: Digi-Key; Supplier Part Number 1: 296-24171-2-ND; Supplier 2: Digi-Key; Supplier Part Number 2: 296-24171-1-ND; Supplier 3: Digi-Key; Supplier Part Number 3: 296-24171-6-ND; Supplier 4: Farnell; Supplier Part Number 4: 1755642; Supplier 5: Newark; Supplier Part Number 5: 94T5100; Supplier 6: Newark; Supplier Part Number 6: 09R6666; Supplier 7: Mouser; Supplier Part Number 7: 595-TPS61221DCKT; Eco-Plan: Green (RoHS & no Sb/Br); Topology: Boost; Vout(Min)(V): 3.3; Mounting Technology: Surface Mount; Code_JEDEC: MO-203-AB; ComponentLink1Description: Datasheet; ComponentLink1URL: http://www.ti.com/general/docs/lit/getliterature.tsp?genericPartNumber=TPS61221&fileType=pdf; ComponentLink2Description: Package Specification; ComponentLink2URL: http://www.ti.com/litv/pdf/mpds114c
footprint DCK6_N (SOT23, 6-Leads, Body 2x1.3mm, Pitch 0.65mm, Lead Span 2.1mm, IPC Medium Density)
footprint DCK6_L (SOT23, 6-Leads, Body 2x1.3mm, Pitch 0.65mm, Lead Span 2.1mm, IPC High Density)
footprint DCK6_M (SOT23, 6-Leads, Body 2x1.3mm, Pitch 0.65mm, Lead Span 2.1mm, IPC Low Density)
pins: 1 VIN (power) "Boost converter input voltage", 2 FB "Voltage feedback of adjustable version. Must be connected to VOUT at fixed output voltage versions.", 3 GND (power) "Control / logic and power ground", 4 VOUT (power) "Boost converter output voltage", 5 L (power) "Connection for Inductor", 6 EN (in) "Enable input (1: enabled, 0: disabled). Must be actively tied high or low."

## TPS61222DCKR
designator U?
Boost Voltage Converter with 0.7 to 5.5 V Input and 5 V Output, -40 to 85 degC, 6-Pin SC70 (DCK), Green (RoHS & no Sb/Br); Manufacturer: Texas Instruments; PartNumber: TPS61222DCKR; Regulated Outputs(#): 1; SubFamily: Step-Up Regulator; Switching Frequency(Max)(kHz): 2000; Vin(Max)(V): 5.5; Vin(Min)(V): 0.7; Vout(Max)(V): 5; DatasheetVersion: SLVS776; PackageVersion: revG, Jan-2007; PackageReference: DCK6; PackageDescription: 6-Pin Plastic Small-Outline Package, 2 x 1.3 mm Body, 0.65 mm Pitch, 2.1 mm Lead Span; Supplier 1: Digi-Key; Supplier Part Number 1: TPS61222DCKR-ND; Supplier 2: Newark; Supplier Part Number 2: 09R6667; Supplier 3: Mouser; Supplier Part Number 3: 595-TPS61222DCKR; Eco-Plan: Green (RoHS & no Sb/Br); Topology: Boost; Vout(Min)(V): 5; Mounting Technology: Surface Mount; Code_JEDEC: MO-203-AB; ComponentLink1Description: Datasheet; ComponentLink1URL: http://www.ti.com/general/docs/lit/getliterature.tsp?genericPartNumber=TPS61222&fileType=pdf; ComponentLink2Description: Package Specification; ComponentLink2URL: http://www.ti.com/litv/pdf/mpds114c
footprint DCK6_N (SOT23, 6-Leads, Body 2x1.3mm, Pitch 0.65mm, Lead Span 2.1mm, IPC Medium Density)
footprint DCK6_L (SOT23, 6-Leads, Body 2x1.3mm, Pitch 0.65mm, Lead Span 2.1mm, IPC High Density)
footprint DCK6_M (SOT23, 6-Leads, Body 2x1.3mm, Pitch 0.65mm, Lead Span 2.1mm, IPC Low Density)
pins: 1 VIN (power) "Boost converter input voltage", 2 FB (in) "Voltage feedback of adjustable version. Must be connected to VOUT at fixed output voltage versions.", 3 GND (power) "Control / logic and power ground", 4 VOUT (power) "Boost converter output voltage", 5 L (power) "Connection for Inductor", 6 EN (in) "Enable input (1: enabled, 0: disabled). Must be actively tied high or low."

## TPS61222DCKT
designator U?
Boost Voltage Converter with 0.7 to 5.5 V Input and 5 V Output, -40 to 85 degC, 6-Pin SC70 (DCK), Green (RoHS & no Sb/Br); Manufacturer: Texas Instruments; PartNumber: TPS61222DCKT; Regulated Outputs(#): 1; SubFamily: Step-Up Regulator; Switching Frequency(Max)(kHz): 2000; Vin(Max)(V): 5.5; Vin(Min)(V): 0.7; Vout(Max)(V): 5; DatasheetVersion: SLVS776; PackageVersion: revG, Jan-2007; PackageReference: DCK6; PackageDescription: 6-Pin Plastic Small-Outline Package, 2 x 1.3 mm Body, 0.65 mm Pitch, 2.1 mm Lead Span; Supplier 1: Digi-Key; Supplier Part Number 1: 296-24172-2-ND; Supplier 2: Digi-Key; Supplier Part Number 2: 296-24172-1-ND; Supplier 3: Digi-Key; Supplier Part Number 3: 296-24172-6-ND; Supplier 4: Farnell; Supplier Part Number 4: 1755643; Supplier 5: Newark; Supplier Part Number 5: 94T5101; Supplier 6: Newark; Supplier Part Number 6: 09R6668; Supplier 7: Mouser; Supplier Part Number 7: 595-TPS61222DCKT; Eco-Plan: Green (RoHS & no Sb/Br); Topology: Boost; Vout(Min)(V): 5; Mounting Technology: Surface Mount; Code_JEDEC: MO-203-AB; ComponentLink1Description: Datasheet; ComponentLink1URL: http://www.ti.com/general/docs/lit/getliterature.tsp?genericPartNumber=TPS61222&fileType=pdf; ComponentLink2Description: Package Specification; ComponentLink2URL: http://www.ti.com/litv/pdf/mpds114c
footprint DCK6_N (SOT23, 6-Leads, Body 2x1.3mm, Pitch 0.65mm, Lead Span 2.1mm, IPC Medium Density)
footprint DCK6_L (SOT23, 6-Leads, Body 2x1.3mm, Pitch 0.65mm, Lead Span 2.1mm, IPC High Density)
footprint DCK6_M (SOT23, 6-Leads, Body 2x1.3mm, Pitch 0.65mm, Lead Span 2.1mm, IPC Low Density)
pins: 1 VIN (power) "Boost converter input voltage", 2 FB (in) "Voltage feedback of adjustable version. Must be connected to VOUT at fixed output voltage versions.", 3 GND (power) "Control / logic and power ground", 4 VOUT (power) "Boost converter output voltage", 5 L (power) "Connection for Inductor", 6 EN (in) "Enable input (1: enabled, 0: disabled). Must be actively tied high or low."

## TPS61240DRVR
designator U?
Boost Voltage Converter with 2.3 to 5.5 V Input and 5 V Output, 6-Pin SON (DRV), Green (RoHS & no Sb/Br); Manufacturer: Texas Instruments; PartNumber: TPS61240DRVR; Preset Vout(V): 5; Regulated Outputs(#): 1; SubFamily: Step-Up Regulator; Switching Frequency(Max)(kHz): 4000; Synchronous Rectification: TRUE; Vin(Max)(V): 5.5; Vin(Min)(V): 2.3; DatasheetVersion: SLVS806B; PackageVersion: revE, Oct-2010; PackageReference: DRV6-1600X1000TP; PackageDescription: 6-Pin Plastic Small Outline No-Lead, 2 x 2 x 0.8 mm Body, 0.65 mm Pitch, Exposed Pad; Supplier 1: Digi-Key; Supplier Part Number 1: TPS61240DRVR-ND; Supplier 2: Newark; Supplier Part Number 2: 25R0113; Supplier 3: Mouser; Supplier Part Number 3: 595-TPS61240DRVR; Eco-Plan: Green (RoHS & no Sb/Br); Topology: Boost; Vout(Max)(V): 5; Vout(Min)(V): 5; Mounting Technology: Surface Mount; ComponentLink1Description: Datasheet; ComponentLink1URL: http://www.ti.com/general/docs/lit/getliterature.tsp?genericPartNumber=TPS61240&fileType=pdf; ComponentLink2Description: Package Specification; ComponentLink2URL: http://www.ti.com/litv/pdf/mpds216d
footprint DRV6-1600X1000TP (SON, 6-Leads, Body 2x2mm, Pitch 0.65mm, Thermal Pad 1.6x1mm, TI Recommended)
pins: 1 GND (power) "Ground", 2 VOUT (power) "Output", 3 FB (in) "Feedback input", 4 EN (in) "Enable", 5 L (power) "Boost and rectifying switch input", 6 VIN (power) "Supply voltage", 7 PP (power) "Exposed thermal pad"

## TPS61240DRVT
designator U?
Boost Voltage Converter with 2.3 to 5.5 V Input and 5 V Output, 6-Pin SON (DRV), Green (RoHS & no Sb/Br); Manufacturer: Texas Instruments; PartNumber: TPS61240DRVT; Preset Vout(V): 5; Regulated Outputs(#): 1; SubFamily: Step-Up Regulator; Switching Frequency(Max)(kHz): 4000; Synchronous Rectification: TRUE; Vin(Max)(V): 5.5; Vin(Min)(V): 2.3; DatasheetVersion: SLVS806B; PackageVersion: revE, Oct-2010; PackageReference: DRV6-1600X1000TP; PackageDescription: 6-Pin Plastic Small Outline No-Lead, 2 x 2 x 0.8 mm Body, 0.65 mm Pitch, Exposed Pad; Supplier 1: Digi-Key; Supplier Part Number 1: 296-24519-2-ND; Supplier 2: Digi-Key; Supplier Part Number 2: 296-24519-1-ND; Supplier 3: Digi-Key; Supplier Part Number 3: 296-24519-6-ND; Supplier 4: Farnell; Supplier Part Number 4: 1903400; Supplier 5: Newark; Supplier Part Number 5: 94T5102; Supplier 6: Newark; Supplier Part Number 6: 25R0114; Supplier 7: Mouser; Supplier Part Number 7: 595-TPS61240DRVT; Eco-Plan: Green (RoHS & no Sb/Br); Topology: Boost; Vout(Max)(V): 5; Vout(Min)(V): 5; Mounting Technology: Surface Mount; ComponentLink1Description: Datasheet; ComponentLink1URL: http://www.ti.com/general/docs/lit/getliterature.tsp?genericPartNumber=TPS61240&fileType=pdf; ComponentLink2Description: Package Specification; ComponentLink2URL: http://www.ti.com/litv/pdf/mpds216d
footprint DRV6-1600X1000TP (SON, 6-Leads, Body 2x2mm, Pitch 0.65mm, Thermal Pad 1.6x1mm, TI Recommended)
pins: 1 GND (power) "Ground", 2 VOUT (power) "Output", 3 FB (in) "Feedback input", 4 EN (in) "Enable", 5 L (power) "Boost and rectifying switch input", 6 VIN (power) "Supply voltage", 7 PP (power) "Exposed thermal pad"

## TPS61240IDRVRQ1
designator U?
Boost Voltage Converter with 2.3 to 5.5 V Input and 5 V Output, -40 to 85 degC, 6-Pin SON (DRV), Green (RoHS & no Sb/Br); Manufacturer: Texas Instruments; PartNumber: TPS61240IDRVRQ1; Regulated Outputs(#): 1; SubFamily: Step-Up Regulator; Switching Frequency(Typ)(kHz): 650, 1200; Vin(Max)(V): 6; Vin(Min)(V): 2.5; Vout(Max)(V): 18.5; Vout(Min)(V): 3; DatasheetVersion: SLVSAO4; PackageVersion: revE, Oct-2010; PackageReference: DRV6-1600X1000TP; PackageDescription: 6-Pin Plastic Small Outline No-Lead, 2 x 2 x 0.8 mm Body, 0.65 mm Pitch, Exposed Pad; Supplier 1: Digi-Key; Supplier Part Number 1: 296-28184-2-ND; Supplier 2: Digi-Key; Supplier Part Number 2: 296-28184-1-ND; Supplier 3: Digi-Key; Supplier Part Number 3: 296-28184-6-ND; Supplier 4: Mouser; Supplier Part Number 4: 595-TPS61240IDRVRQ1; Eco-Plan: Green (RoHS & no Sb/Br); Topology: Boost; Mounting Technology: Surface Mount; ComponentLink1Description: Datasheet; ComponentLink1URL: http://www.ti.com/general/docs/lit/getliterature.tsp?genericPartNumber=TPS61240-Q1&fileType=pdf; ComponentLink2Description: Package Specification; ComponentLink2URL: http://www.ti.com/litv/pdf/mpds216d
footprint DRV6-1600X1000TP (SON, 6-Leads, Body 2x2mm, Pitch 0.65mm, Thermal Pad 1.6x1mm, TI Recommended)
pins: 1 GND (power) "Ground", 2 VOUT (power) "Output", 3 FB (in) "Feedback input", 4 EN (in) "Enable", 5 L (power) "Boost and rectifying switch input", 6 VIN (power) "Supply voltage", 7 PP (power) "Exposed thermal pad"